# Altium footprint library RK097111080R.PcbLib: 1 footprints
Each footprint in its own frame and in the unit in brackets; x right, y up, seen from the top. Pads: shape width x height; smd on the part's side, far side on the other; paste and mask are expansions set on the pad; w line width, h text height; cw(c..) or ccw(c..) is an arc to the next point about the centre after c.
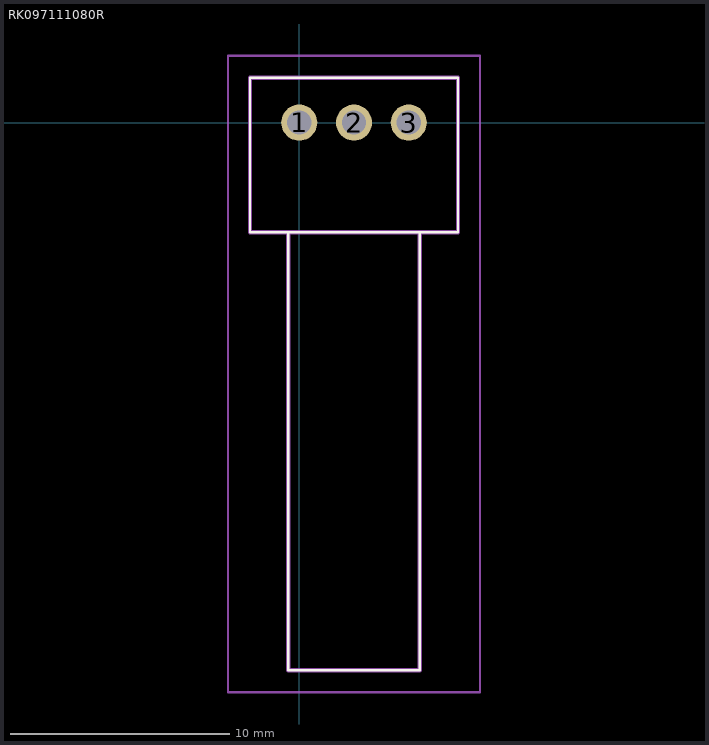
[diagram p0: the footprint, top view; thin cyan lines are the x and y axes]

## RK097111080R [mm]
pads (3):
  round 1.65 hole 1.1: 1(0,0) 2(2.5,0) 3(5,0)
Top Overlay:
  lines w0.1: -0.5,-5 -0.5,-25 5.5,-25 5.5,-5 ; -2.25,-5 7.25,-5 7.25,2.05 -2.25,2.05 -2.25,-5
Mechanical 15:
  lines w0.2: -0.5,-5 -0.5,-25 5.5,-25 5.5,-5 ; -2.25,-5 7.25,-5 7.25,2.05 -2.25,2.05 -2.25,-5
Mechanical 20:
  lines w0.1: -3.25,-26 8.25,-26 8.25,3.05 -3.25,3.05 -3.25,-26
3D body "RK097111080R.stp": height 11.2, standoff -3.65, extent -2.21,-24.913 7.29,2.137